# EAGLE library part NXP_FXAS21002CQR1 (library Upverter Library)
Gyroscope Triple 3.6V 24-Pin QFN T/R
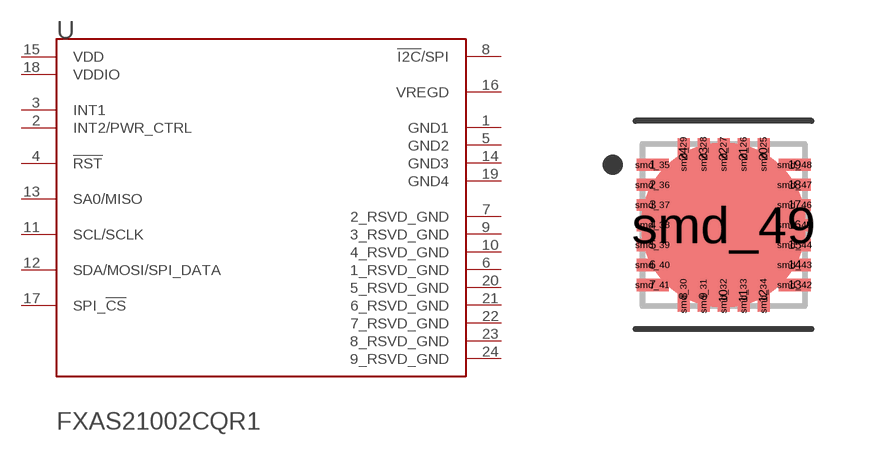
[diagram p0: symbol with the pads of NXP_FXAS21002CQR1_0; footprint NXP_FXAS21002CQR1_0]

Designator prefix U

## NXP_FXAS21002CQR1NXP_FXAS21002CQR1_0_0 (MF: NXP; MPN: FXAS21002CQR1; centroid_not_specified: No; datasheet: https://www.nxp.com/docs/en/data-sheet/FXAS21002.pdf; device_class_L1: Sensors; device_class_L2: Motion Sensors; device_class_L3: Gyroscopes; digikey_description: IC GYROSCOPE 3-AXIS 24QFN; digikey_part_number: FXAS21002CQR1CT-ND; footprint_url: https://www.nxp.com/docs/en/package-information/98ASA00356D.pdf; height: 1.1mm; lead_free: yes; max_supply_voltage: 3.6V; mfg_package_ident: SOT1681-1; mfg_package_ident_date: 01/2016; mfg_package_ident_rev: A; min_supply_voltage: 1.95V; mouser_description: Gyroscopes Triple Axis }2000?/s 24-Pin QFN Tape and Reel; mouser_part_number: 841-FXAS21002CQR1; operating_supply_current: 2.7mA; package: VQFN24; prefix: U; rohs: yes; sensor_output: I2C,SPI; temperature_range_high: +85°C; temperature_range_low: -40°C; verification_version: 0.0.0.1)  [NXP_FXAS21002CQR1_0]
1  GND1  pwr
2  INT2/PWR_CTRL
3  INT1  out
4  !RST!  out
5  GND2  pwr
6  1_RSVD_GND  pwr
7  2_RSVD_GND  pwr
8  !I2C!/SPI
9  3_RSVD_GND  pwr
10  4_RSVD_GND  pwr
11  SCL/SCLK
12  SDA/MOSI/SPI_DATA
13  SA0/MISO
14  GND3  pwr
15  VDD  pwr
16  VREGD  out
17  SPI_!CS!
18  VDDIO  pwr
19  GND4  pwr
20  5_RSVD_GND  pwr
21  6_RSVD_GND  pwr
22  7_RSVD_GND  pwr
23  8_RSVD_GND  pwr
24  9_RSVD_GND  pwr

## Footprint NXP_FXAS21002CQR1_0 (pad centres in mm)
Gyroscope Triple 3.6V 24-Pin QFN T/R
smd 0.8 x 0.3: 1 -1.775,1.5; 2 -1.775,1; 3 -1.775,0.5; 4 -1.775,0; 5 -1.775,-0.5; 6 -1.775,-1; 7 -1.775,-1.5; 13 1.775,-1.5; 14 1.775,-1; 15 1.775,-0.5; 16 1.775,0; 17 1.775,0.5; 18 1.775,1; 19 1.775,1.5
smd 0.3 x 0.8: 8 -1,-1.775; 9 -0.5,-1.775; 10 0,-1.775; 11 0.5,-1.775; 12 1,-1.775; 20 1,1.775; 21 0.5,1.775; 22 0,1.775; 23 -0.5,1.775; 24 -1,1.775
smd 0.269 x 0.769: smd_25 1,1.775; smd_26 0.5,1.775; smd_27 0,1.775; smd_28 -0.5,1.775; smd_29 -1,1.775; smd_30 -1,-1.775; smd_31 -0.5,-1.775; smd_32 0,-1.775; smd_33 0.5,-1.775; smd_34 1,-1.775
smd 0.769 x 0.269: smd_35 -1.775,1.5; smd_36 -1.775,1; smd_37 -1.775,0.5; smd_38 -1.775,0; smd_39 -1.775,-0.5; smd_40 -1.775,-1; smd_41 -1.775,-1.5; smd_42 1.775,-1.5; smd_43 1.775,-1; smd_44 1.775,-0.5; smd_45 1.775,0; smd_46 1.775,0.5; smd_47 1.775,1; smd_48 1.775,1.5
smd 4.118 x 4.118: smd_49 0,0